# Altium integrated library Diodes - TVS.IntLib: 5379 symbols (part 34 of 122)
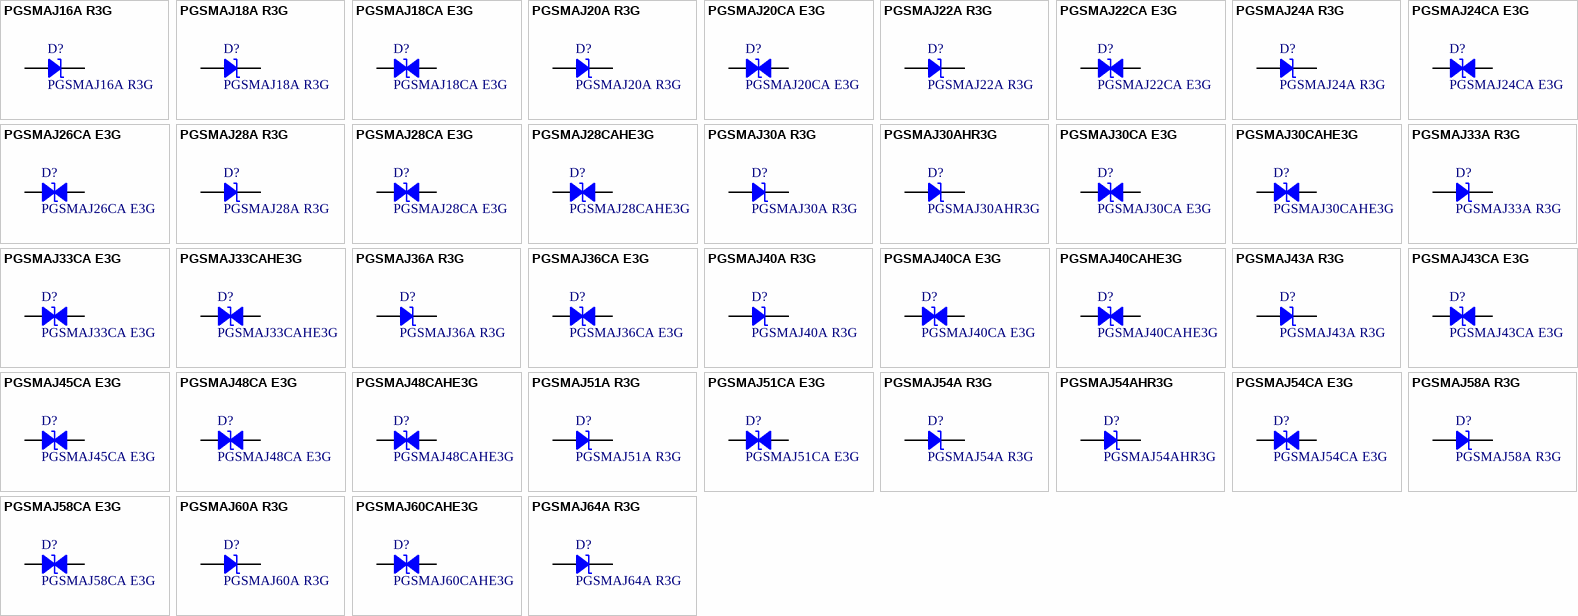
[diagram p167: symbols PGSMAJ16A R3G to PGSMAJ64A R3G]

## PGSMAJ40CA E3G
designator D?
DIODE, TVS, BIDIRECTIONAL; Manufacturer: Taiwan Semiconductor Corporation; Bidirectional Channels: 1; Current - Peak Pulse (10/1000µs): 6.2A; Power Line Protection: No; Power - Peak Pulse: 400W; Type: Zener; Voltage - Breakdown (Min): 44.4V; Voltage - Clamping (Max) @ Ipp: 64.5V; Voltage - Reverse Standoff (Typ): 40V; Part Number: PGSMAJ40CA E3G; Applications: Automotive; ComponentLink1Description: Datasheet; ComponentLink1URL: https://www.taiwansemi.com/products/datasheet/PGSMAJ%20SERIES_B1805.pdf; ComponentLink2Description: DigiKey Link; ComponentLink2URL: http://digikey.com/product-detail/en/taiwan-semiconductor-corporation/PGSMAJ40CA-E3G/PGSMAJ40CAE3GCT-ND/8600546; LastUpdated: 9/2/2020 1:27:54 AM; Lifecycle Status: Active; Minimum Order: 1; Mounting Type: Surface Mount; Operating Temperature: -55°C ~ 175°C (TJ); Package / Case: DO-214AC, SMA; Packaging: TapeAndReel; PartId: 7659; Part Status: Active; Price: 0.13; Series: Automotive, AEC-Q101; Supplier 1: DigiKey; Supplier Part Number 1: PGSMAJ40CAE3GCT-ND; Supplier Device Package: DO-214AC (SMA)
footprint DO214AC SMA
pins: 1, 2

## PGSMAJ40CAHE3G
designator D?
DIODE, TVS, BIDIRECTIONAL; Manufacturer: Taiwan Semiconductor Corporation; Bidirectional Channels: 1; Current - Peak Pulse (10/1000µs): 6.2A; Power Line Protection: No; Power - Peak Pulse: 400W; Type: Zener; Voltage - Breakdown (Min): 44.4V; Voltage - Clamping (Max) @ Ipp: 64.5V; Voltage - Reverse Standoff (Typ): 40V; Part Number: PGSMAJ40CAHE3G; Applications: Automotive; ComponentLink1Description: Datasheet; ComponentLink1URL: https://www.taiwansemi.com/products/datasheet/PGSMAJ%20SERIES_B1805.pdf; ComponentLink2Description: DigiKey Link; ComponentLink2URL: http://digikey.com/product-detail/en/taiwan-semiconductor-corporation/PGSMAJ40CAHE3G/PGSMAJ40CAHE3GCT-ND/8600547; LastUpdated: 9/2/2020 1:27:51 AM; Lifecycle Status: Active; Minimum Order: 1; Mounting Type: Surface Mount; Operating Temperature: -55°C ~ 175°C (TJ); Package / Case: DO-214AC, SMA; Packaging: TapeAndReel; PartId: 7365; Part Status: Active; Price: 0.14; Series: Automotive, AEC-Q101; Supplier 1: DigiKey; Supplier Part Number 1: PGSMAJ40CAHE3GCT-ND; Supplier Device Package: DO-214AC (SMA)
footprint DO214AC SMA
pins: 1, 2

## PGSMAJ43A R3G
designator D?
DIODE, TVS, UNIDIRECTIONAL; Manufacturer: Taiwan Semiconductor Corporation; Current - Peak Pulse (10/1000µs): 5.8A; Power Line Protection: No; Power - Peak Pulse: 400W; Type: Zener; Unidirectional Channels: 1; Voltage - Breakdown (Min): 47.8V; Voltage - Clamping (Max) @ Ipp: 69.4V; Voltage - Reverse Standoff (Typ): 43V; Part Number: PGSMAJ43A R3G; Applications: Automotive; ComponentLink1Description: Datasheet; ComponentLink1URL: https://www.taiwansemi.com/products/datasheet/PGSMAJ%20SERIES_B1805.pdf; ComponentLink2Description: DigiKey Link; ComponentLink2URL: http://digikey.com/product-detail/en/taiwan-semiconductor-corporation/PGSMAJ43A-R3G/PGSMAJ43AR3GCT-ND/8600548; LastUpdated: 9/2/2020 1:20:16 AM; Lifecycle Status: Active; Minimum Order: 1; Mounting Type: Surface Mount; Operating Temperature: -55°C ~ 175°C (TJ); Package / Case: DO-214AC, SMA; Packaging: TapeAndReel; PartId: 5975; Part Status: Active; Price: 0.12; Series: Automotive, AEC-Q101; Supplier 1: DigiKey; Supplier Part Number 1: PGSMAJ43AR3GCT-ND; Supplier Device Package: DO-214AC (SMA)
footprint DO214AC SMA
pins: 1, 2

## PGSMAJ43CA E3G
designator D?
DIODE, TVS, BIDIRECTIONAL; Manufacturer: Taiwan Semiconductor Corporation; Bidirectional Channels: 1; Current - Peak Pulse (10/1000µs): 5.8A; Power Line Protection: No; Power - Peak Pulse: 400W; Type: Zener; Voltage - Breakdown (Min): 47.8V; Voltage - Clamping (Max) @ Ipp: 69.4V; Voltage - Reverse Standoff (Typ): 43V; Part Number: PGSMAJ43CA E3G; Applications: Automotive; ComponentLink1Description: Datasheet; ComponentLink1URL: https://www.taiwansemi.com/products/datasheet/PGSMAJ%20SERIES_B1805.pdf; ComponentLink2Description: DigiKey Link; ComponentLink2URL: http://digikey.com/product-detail/en/taiwan-semiconductor-corporation/PGSMAJ43CA-E3G/PGSMAJ43CAE3GCT-ND/8600549; LastUpdated: 9/2/2020 1:27:54 AM; Lifecycle Status: Active; Minimum Order: 1; Mounting Type: Surface Mount; Operating Temperature: -55°C ~ 175°C (TJ); Package / Case: DO-214AC, SMA; Packaging: TapeAndReel; PartId: 7658; Part Status: Active; Price: 0.13; Series: Automotive, AEC-Q101; Supplier 1: DigiKey; Supplier Part Number 1: PGSMAJ43CAE3GCT-ND; Supplier Device Package: DO-214AC (SMA)
footprint DO214AC SMA
pins: 1, 2

## PGSMAJ45CA E3G
designator D?
DIODE, TVS, BIDIRECTIONAL; Manufacturer: Taiwan Semiconductor Corporation; Bidirectional Channels: 1; Current - Peak Pulse (10/1000µs): 5.5A; Power Line Protection: No; Power - Peak Pulse: 400W; Type: Zener; Voltage - Breakdown (Min): 50V; Voltage - Clamping (Max) @ Ipp: 72.7V; Voltage - Reverse Standoff (Typ): 45V; Part Number: PGSMAJ45CA E3G; Applications: Automotive; ComponentLink1Description: Datasheet; ComponentLink1URL: https://www.taiwansemi.com/products/datasheet/PGSMAJ%20SERIES_B1805.pdf; ComponentLink2Description: DigiKey Link; ComponentLink2URL: http://digikey.com/product-detail/en/taiwan-semiconductor-corporation/PGSMAJ45CA-E3G/PGSMAJ45CAE3GCT-ND/8600550; LastUpdated: 9/2/2020 1:27:54 AM; Lifecycle Status: Active; Minimum Order: 1; Mounting Type: Surface Mount; Operating Temperature: -55°C ~ 175°C (TJ); Package / Case: DO-214AC, SMA; Packaging: TapeAndReel; PartId: 7657; Part Status: Active; Price: 0.13; Series: Automotive, AEC-Q101; Supplier 1: DigiKey; Supplier Part Number 1: PGSMAJ45CAE3GCT-ND; Supplier Device Package: DO-214AC (SMA)
footprint DO214AC SMA
pins: 1, 2

## PGSMAJ48CA E3G
designator D?
DIODE, TVS, BIDIRECTIONAL; Manufacturer: Taiwan Semiconductor Corporation; Bidirectional Channels: 1; Current - Peak Pulse (10/1000µs): 5.2A; Power Line Protection: No; Power - Peak Pulse: 400W; Type: Zener; Voltage - Breakdown (Min): 53.3V; Voltage - Clamping (Max) @ Ipp: 77.4V; Voltage - Reverse Standoff (Typ): 48V; Part Number: PGSMAJ48CA E3G; Applications: Automotive; ComponentLink1Description: Datasheet; ComponentLink1URL: https://www.taiwansemi.com/products/datasheet/PGSMAJ%20SERIES_B1805.pdf; ComponentLink2Description: DigiKey Link; ComponentLink2URL: http://digikey.com/product-detail/en/taiwan-semiconductor-corporation/PGSMAJ48CA-E3G/PGSMAJ48CAE3GCT-ND/8600551; LastUpdated: 9/2/2020 1:27:54 AM; Lifecycle Status: Active; Minimum Order: 1; Mounting Type: Surface Mount; Operating Temperature: -55°C ~ 175°C (TJ); Package / Case: DO-214AC, SMA; Packaging: TapeAndReel; PartId: 7671; Part Status: Active; Price: 0.13; Series: Automotive, AEC-Q101; Supplier 1: DigiKey; Supplier Part Number 1: PGSMAJ48CAE3GCT-ND; Supplier Device Package: DO-214AC (SMA)
footprint DO214AC SMA
pins: 1, 2

## PGSMAJ48CAHE3G
designator D?
DIODE, TVS, BIDIRECTIONAL; Manufacturer: Taiwan Semiconductor Corporation; Bidirectional Channels: 1; Current - Peak Pulse (10/1000µs): 5.2A; Power Line Protection: No; Power - Peak Pulse: 400W; Type: Zener; Voltage - Breakdown (Min): 53.3V; Voltage - Clamping (Max) @ Ipp: 77.4V; Voltage - Reverse Standoff (Typ): 48V; Part Number: PGSMAJ48CAHE3G; Applications: Automotive; ComponentLink1Description: Datasheet; ComponentLink1URL: https://www.taiwansemi.com/products/datasheet/PGSMAJ%20SERIES_B1805.pdf; ComponentLink2Description: DigiKey Link; ComponentLink2URL: http://digikey.com/product-detail/en/taiwan-semiconductor-corporation/PGSMAJ48CAHE3G/PGSMAJ48CAHE3GCT-ND/8600552; LastUpdated: 9/2/2020 1:27:51 AM; Lifecycle Status: Active; Minimum Order: 1; Mounting Type: Surface Mount; Operating Temperature: -55°C ~ 175°C (TJ); Package / Case: DO-214AC, SMA; Packaging: TapeAndReel; PartId: 7364; Part Status: Active; Price: 0.14; Series: Automotive, AEC-Q101; Supplier 1: DigiKey; Supplier Part Number 1: PGSMAJ48CAHE3GCT-ND; Supplier Device Package: DO-214AC (SMA)
footprint DO214AC SMA
pins: 1, 2

## PGSMAJ51A R3G
designator D?
DIODE, TVS, UNIDIRECTIONAL; Manufacturer: Taiwan Semiconductor Corporation; Current - Peak Pulse (10/1000µs): 4.9A; Power Line Protection: No; Power - Peak Pulse: 400W; Type: Zener; Unidirectional Channels: 1; Voltage - Breakdown (Min): 56.7V; Voltage - Clamping (Max) @ Ipp: 82.4V; Voltage - Reverse Standoff (Typ): 51V; Part Number: PGSMAJ51A R3G; Applications: Automotive; ComponentLink1Description: Datasheet; ComponentLink1URL: https://www.taiwansemi.com/products/datasheet/PGSMAJ%20SERIES_B1805.pdf; ComponentLink2Description: DigiKey Link; ComponentLink2URL: http://digikey.com/product-detail/en/taiwan-semiconductor-corporation/PGSMAJ51A-R3G/PGSMAJ51AR3GCT-ND/8600557; LastUpdated: 9/2/2020 1:20:16 AM; Lifecycle Status: Active; Minimum Order: 1; Mounting Type: Surface Mount; Operating Temperature: -55°C ~ 175°C (TJ); Package / Case: DO-214AC, SMA; Packaging: TapeAndReel; PartId: 5974; Part Status: Active; Price: 0.12; Series: Automotive, AEC-Q101; Supplier 1: DigiKey; Supplier Part Number 1: PGSMAJ51AR3GCT-ND; Supplier Device Package: DO-214AC (SMA)
footprint DO214AC SMA
pins: 1, 2

## PGSMAJ51CA E3G
designator D?
DIODE, TVS, BIDIRECTIONAL; Manufacturer: Taiwan Semiconductor Corporation; Bidirectional Channels: 1; Current - Peak Pulse (10/1000µs): 4.9A; Power Line Protection: No; Power - Peak Pulse: 400W; Type: Zener; Voltage - Breakdown (Min): 56.7V; Voltage - Clamping (Max) @ Ipp: 82.4V; Voltage - Reverse Standoff (Typ): 51V; Part Number: PGSMAJ51CA E3G; Applications: Automotive; ComponentLink1Description: Datasheet; ComponentLink1URL: https://www.taiwansemi.com/products/datasheet/PGSMAJ%20SERIES_B1805.pdf; ComponentLink2Description: DigiKey Link; ComponentLink2URL: http://digikey.com/product-detail/en/taiwan-semiconductor-corporation/PGSMAJ51CA-E3G/PGSMAJ51CAE3GCT-ND/8600558; LastUpdated: 9/2/2020 1:27:54 AM; Lifecycle Status: Active; Minimum Order: 1; Mounting Type: Surface Mount; Operating Temperature: -55°C ~ 175°C (TJ); Package / Case: DO-214AC, SMA; Packaging: TapeAndReel; PartId: 7656; Part Status: Active; Price: 0.13; Series: Automotive, AEC-Q101; Supplier 1: DigiKey; Supplier Part Number 1: PGSMAJ51CAE3GCT-ND; Supplier Device Package: DO-214AC (SMA)
footprint DO214AC SMA
pins: 1, 2

## PGSMAJ54A R3G
designator D?
DIODE, TVS, UNIDIRECTIONAL; Manufacturer: Taiwan Semiconductor Corporation; Current - Peak Pulse (10/1000µs): 4.6A; Power Line Protection: No; Power - Peak Pulse: 400W; Type: Zener; Unidirectional Channels: 1; Voltage - Breakdown (Min): 60V; Voltage - Clamping (Max) @ Ipp: 87.1V; Voltage - Reverse Standoff (Typ): 54V; Part Number: PGSMAJ54A R3G; Applications: Automotive; ComponentLink1Description: Datasheet; ComponentLink1URL: https://www.taiwansemi.com/products/datasheet/PGSMAJ%20SERIES_B1805.pdf; ComponentLink2Description: DigiKey Link; ComponentLink2URL: http://digikey.com/product-detail/en/taiwan-semiconductor-corporation/PGSMAJ54A-R3G/PGSMAJ54AR3GCT-ND/8600559; LastUpdated: 9/2/2020 1:20:16 AM; Lifecycle Status: Active; Minimum Order: 1; Mounting Type: Surface Mount; Operating Temperature: -55°C ~ 175°C (TJ); Package / Case: DO-214AC, SMA; Packaging: TapeAndReel; PartId: 5973; Part Status: Active; Price: 0.12; Series: Automotive, AEC-Q101; Supplier 1: DigiKey; Supplier Part Number 1: PGSMAJ54AR3GCT-ND; Supplier Device Package: DO-214AC (SMA)
footprint DO214AC SMA
pins: 1, 2

## PGSMAJ54AHR3G
designator D?
DIODE, TVS, UNIDIRECTIONAL; Manufacturer: Taiwan Semiconductor Corporation; Current - Peak Pulse (10/1000µs): 4.6A; Power Line Protection: No; Power - Peak Pulse: 400W; Type: Zener; Unidirectional Channels: 1; Voltage - Breakdown (Min): 60V; Voltage - Clamping (Max) @ Ipp: 87.1V; Voltage - Reverse Standoff (Typ): 54V; Part Number: PGSMAJ54AHR3G; Applications: Automotive; ComponentLink1Description: Datasheet; ComponentLink1URL: https://www.taiwansemi.com/products/datasheet/PGSMAJ%20SERIES_B1805.pdf; ComponentLink2Description: DigiKey Link; ComponentLink2URL: http://digikey.com/product-detail/en/taiwan-semiconductor-corporation/PGSMAJ54AHR3G/PGSMAJ54AHR3GCT-ND/8600560; LastUpdated: 9/2/2020 1:20:17 AM; Lifecycle Status: Active; Minimum Order: 1; Mounting Type: Surface Mount; Operating Temperature: -55°C ~ 175°C (TJ); Package / Case: DO-214AC, SMA; Packaging: TapeAndReel; PartId: 6028; Part Status: Active; Price: 0.11; Series: Automotive, AEC-Q101; Supplier 1: DigiKey; Supplier Part Number 1: PGSMAJ54AHR3GCT-ND; Supplier Device Package: DO-214AC (SMA)
footprint DO214AC SMA
pins: 1, 2

## PGSMAJ54CA E3G
designator D?
DIODE, TVS, BIDIRECTIONAL; Manufacturer: Taiwan Semiconductor Corporation; Bidirectional Channels: 1; Current - Peak Pulse (10/1000µs): 4.6A; Power Line Protection: No; Power - Peak Pulse: 400W; Type: Zener; Voltage - Breakdown (Min): 60V; Voltage - Clamping (Max) @ Ipp: 87.1V; Voltage - Reverse Standoff (Typ): 54V; Part Number: PGSMAJ54CA E3G; Applications: Automotive; ComponentLink1Description: Datasheet; ComponentLink1URL: https://www.taiwansemi.com/products/datasheet/PGSMAJ%20SERIES_B1805.pdf; ComponentLink2Description: DigiKey Link; ComponentLink2URL: http://digikey.com/product-detail/en/taiwan-semiconductor-corporation/PGSMAJ54CA-E3G/PGSMAJ54CAE3GCT-ND/8600561; LastUpdated: 9/2/2020 1:27:52 AM; Lifecycle Status: Active; Minimum Order: 1; Mounting Type: Surface Mount; Operating Temperature: -55°C ~ 175°C (TJ); Package / Case: DO-214AC, SMA; Packaging: TapeAndReel; PartId: 7502; Part Status: Active; Price: 0.13; Series: Automotive, AEC-Q101; Supplier 1: DigiKey; Supplier Part Number 1: PGSMAJ54CAE3GCT-ND; Supplier Device Package: DO-214AC (SMA)
footprint DO214AC SMA
pins: 1, 2

## PGSMAJ58A R3G
designator D?
DIODE, TVS, UNIDIRECTIONAL; Manufacturer: Taiwan Semiconductor Corporation; Current - Peak Pulse (10/1000µs): 4.3A; Power Line Protection: No; Power - Peak Pulse: 400W; Type: Zener; Unidirectional Channels: 1; Voltage - Breakdown (Min): 64.4V; Voltage - Clamping (Max) @ Ipp: 93.6V; Voltage - Reverse Standoff (Typ): 58V; Part Number: PGSMAJ58A R3G; Applications: Automotive; ComponentLink1Description: Datasheet; ComponentLink1URL: https://www.taiwansemi.com/products/datasheet/PGSMAJ%20SERIES_B1805.pdf; ComponentLink2Description: DigiKey Link; ComponentLink2URL: http://digikey.com/product-detail/en/taiwan-semiconductor-corporation/PGSMAJ58A-R3G/PGSMAJ58AR3GCT-ND/8600562; LastUpdated: 9/2/2020 1:20:16 AM; Lifecycle Status: Active; Minimum Order: 1; Mounting Type: Surface Mount; Operating Temperature: -55°C ~ 175°C (TJ); Package / Case: DO-214AC, SMA; Packaging: TapeAndReel; PartId: 5972; Part Status: Active; Price: 0.12; Series: Automotive, AEC-Q101; Supplier 1: DigiKey; Supplier Part Number 1: PGSMAJ58AR3GCT-ND; Supplier Device Package: DO-214AC (SMA)
footprint DO214AC SMA
pins: 1, 2

## PGSMAJ58CA E3G
designator D?
DIODE, TVS, BIDIRECTIONAL; Manufacturer: Taiwan Semiconductor Corporation; Bidirectional Channels: 1; Current - Peak Pulse (10/1000µs): 4.3A; Power Line Protection: No; Power - Peak Pulse: 400W; Type: Zener; Voltage - Breakdown (Min): 64.4V; Voltage - Clamping (Max) @ Ipp: 93.6V; Voltage - Reverse Standoff (Typ): 58V; Part Number: PGSMAJ58CA E3G; Applications: Automotive; ComponentLink1Description: Datasheet; ComponentLink1URL: https://www.taiwansemi.com/products/datasheet/PGSMAJ%20SERIES_B1805.pdf; ComponentLink2Description: DigiKey Link; ComponentLink2URL: http://digikey.com/product-detail/en/taiwan-semiconductor-corporation/PGSMAJ58CA-E3G/PGSMAJ58CAE3GCT-ND/8600563; LastUpdated: 9/2/2020 1:27:54 AM; Lifecycle Status: Active; Minimum Order: 1; Mounting Type: Surface Mount; Operating Temperature: -55°C ~ 175°C (TJ); Package / Case: DO-214AC, SMA; Packaging: TapeAndReel; PartId: 7655; Part Status: Active; Price: 0.13; Series: Automotive, AEC-Q101; Supplier 1: DigiKey; Supplier Part Number 1: PGSMAJ58CAE3GCT-ND; Supplier Device Package: DO-214AC (SMA)
footprint DO214AC SMA
pins: 1, 2

## PGSMAJ60A R3G
designator D?
DIODE, TVS, UNIDIRECTIONAL; Manufacturer: Taiwan Semiconductor Corporation; Current - Peak Pulse (10/1000µs): 4.1A; Power Line Protection: No; Power - Peak Pulse: 400W; Type: Zener; Unidirectional Channels: 1; Voltage - Breakdown (Min): 66.7V; Voltage - Clamping (Max) @ Ipp: 96.8V; Voltage - Reverse Standoff (Typ): 60V; Part Number: PGSMAJ60A R3G; Applications: Automotive; ComponentLink1Description: Datasheet; ComponentLink1URL: https://www.taiwansemi.com/products/datasheet/PGSMAJ%20SERIES_B1805.pdf; ComponentLink2Description: DigiKey Link; ComponentLink2URL: http://digikey.com/product-detail/en/taiwan-semiconductor-corporation/PGSMAJ60A-R3G/PGSMAJ60AR3GCT-ND/8600565; LastUpdated: 9/2/2020 1:20:16 AM; Lifecycle Status: Active; Minimum Order: 1; Mounting Type: Surface Mount; Operating Temperature: -55°C ~ 175°C (TJ); Package / Case: DO-214AC, SMA; Packaging: TapeAndReel; PartId: 5971; Part Status: Active; Price: 0.12; Series: Automotive, AEC-Q101; Supplier 1: DigiKey; Supplier Part Number 1: PGSMAJ60AR3GCT-ND; Supplier Device Package: DO-214AC (SMA)
footprint DO214AC SMA
pins: 1, 2

## PGSMAJ60CAHE3G
designator D?
DIODE, TVS, BIDIRECTIONAL; Manufacturer: Taiwan Semiconductor Corporation; Bidirectional Channels: 1; Current - Peak Pulse (10/1000µs): 4.1A; Power Line Protection: No; Power - Peak Pulse: 400W; Type: Zener; Voltage - Breakdown (Min): 66.7V; Voltage - Clamping (Max) @ Ipp: 96.8V; Voltage - Reverse Standoff (Typ): 60V; Part Number: PGSMAJ60CAHE3G; Applications: Automotive; ComponentLink1Description: Datasheet; ComponentLink1URL: https://www.taiwansemi.com/products/datasheet/PGSMAJ%20SERIES_B1805.pdf; ComponentLink2Description: DigiKey Link; ComponentLink2URL: http://digikey.com/product-detail/en/taiwan-semiconductor-corporation/PGSMAJ60CAHE3G/PGSMAJ60CAHE3GCT-ND/8600566; LastUpdated: 9/2/2020 1:27:51 AM; Lifecycle Status: Active; Minimum Order: 1; Mounting Type: Surface Mount; Operating Temperature: -55°C ~ 175°C (TJ); Package / Case: DO-214AC, SMA; Packaging: TapeAndReel; PartId: 7363; Part Status: Active; Price: 0.14; Series: Automotive, AEC-Q101; Supplier 1: DigiKey; Supplier Part Number 1: PGSMAJ60CAHE3GCT-ND; Supplier Device Package: DO-214AC (SMA)
footprint DO214AC SMA
pins: 1, 2

## PGSMAJ64A R3G
designator D?
DIODE, TVS, UNIDIRECTIONAL; Manufacturer: Taiwan Semiconductor Corporation; Current - Peak Pulse (10/1000µs): 3.9A; Power Line Protection: No; Power - Peak Pulse: 400W; Type: Zener; Unidirectional Channels: 1; Voltage - Breakdown (Min): 71.1V; Voltage - Clamping (Max) @ Ipp: 103V; Voltage - Reverse Standoff (Typ): 64V; Part Number: PGSMAJ64A R3G; Applications: Automotive; ComponentLink1Description: Datasheet; ComponentLink1URL: https://www.taiwansemi.com/products/datasheet/PGSMAJ%20SERIES_B1805.pdf; ComponentLink2Description: DigiKey Link; ComponentLink2URL: http://digikey.com/product-detail/en/taiwan-semiconductor-corporation/PGSMAJ64A-R3G/PGSMAJ64AR3GCT-ND/8600567; LastUpdated: 9/2/2020 1:20:18 AM; Lifecycle Status: Active; Minimum Order: 1; Mounting Type: Surface Mount; Operating Temperature: -55°C ~ 175°C (TJ); Package / Case: DO-214AC, SMA; Packaging: TapeAndReel; PartId: 6131; Part Status: Active; Price: 0.12; Series: Automotive, AEC-Q101; Supplier 1: DigiKey; Supplier Part Number 1: PGSMAJ64AR3GCT-ND; Supplier Device Package: DO-214AC (SMA)
footprint DO214AC SMA
pins: 1, 2

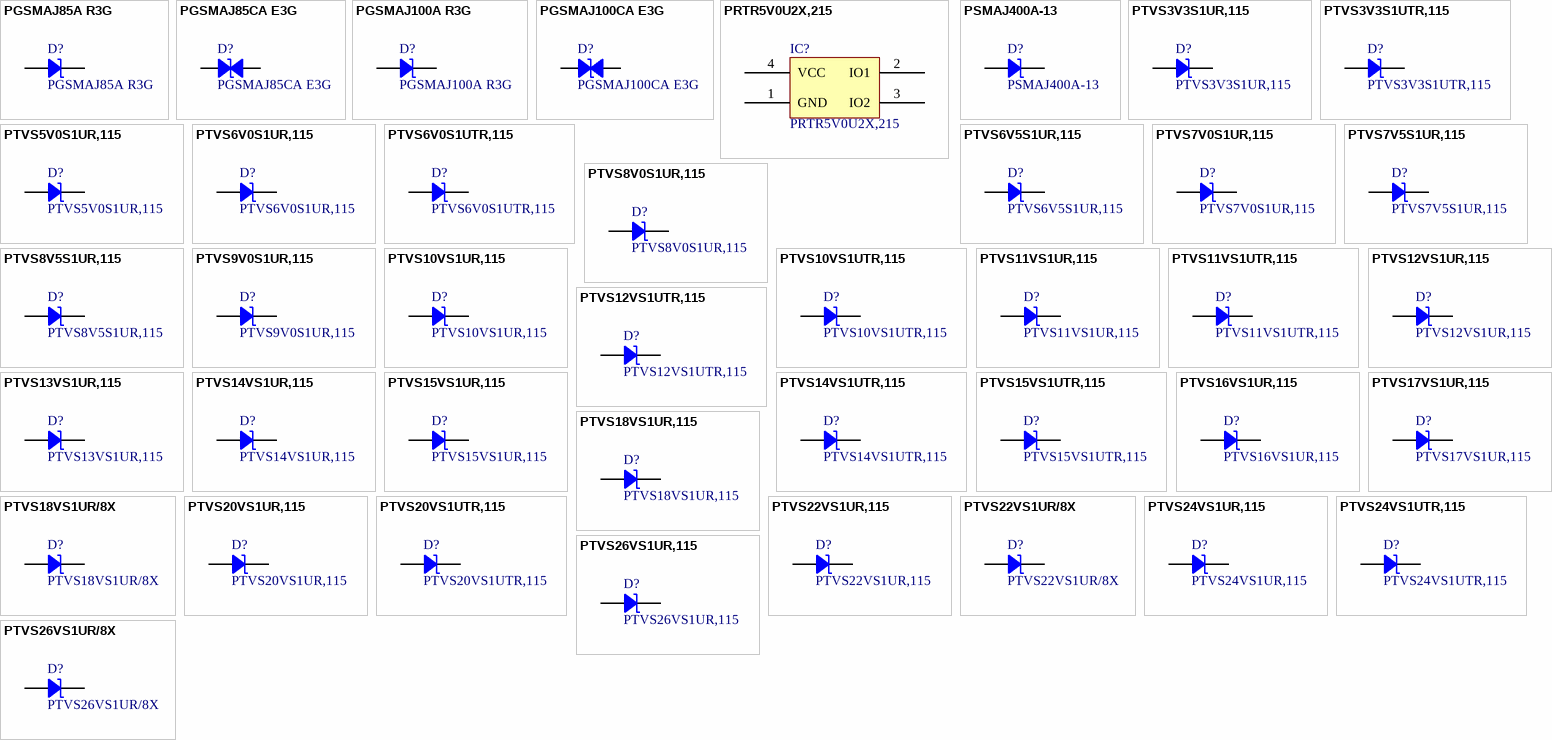
[diagram p37: symbols PGSMAJ85A R3G to PTVS26VS1UR/8X]

## PGSMAJ85A R3G
designator D?
DIODE, TVS, UNIDIRECTIONAL; Manufacturer: Taiwan Semiconductor Corporation; Current - Peak Pulse (10/1000µs): 2.2A; Power Line Protection: No; Power - Peak Pulse: 400W; Type: Zener; Unidirectional Channels: 1; Voltage - Breakdown (Min): 94.4V; Voltage - Clamping (Max) @ Ipp: 137V; Voltage - Reverse Standoff (Typ): 85V; Part Number: PGSMAJ85A R3G; Applications: Automotive; ComponentLink1Description: Datasheet; ComponentLink1URL: https://www.taiwansemi.com/products/datasheet/PGSMAJ%20SERIES_B1805.pdf; ComponentLink2Description: DigiKey Link; ComponentLink2URL: http://digikey.com/product-detail/en/taiwan-semiconductor-corporation/PGSMAJ85A-R3G/PGSMAJ85AR3GCT-ND/8600571; LastUpdated: 9/2/2020 1:20:18 AM; Lifecycle Status: Active; Minimum Order: 1; Mounting Type: Surface Mount; Operating Temperature: -55°C ~ 175°C (TJ); Package / Case: DO-214AC, SMA; Packaging: TapeAndReel; PartId: 6130; Part Status: Active; Price: 0.12; Series: Automotive, AEC-Q101; Supplier 1: DigiKey; Supplier Part Number 1: PGSMAJ85AR3GCT-ND; Supplier Device Package: DO-214AC (SMA)
footprint DO214AC SMA
pins: 1, 2

## PGSMAJ85CA E3G
designator D?
DIODE, TVS, BIDIRECTIONAL; Manufacturer: Taiwan Semiconductor Corporation; Bidirectional Channels: 1; Current - Peak Pulse (10/1000µs): 2.2A; Power Line Protection: No; Power - Peak Pulse: 400W; Type: Zener; Voltage - Breakdown (Min): 94.4V; Voltage - Clamping (Max) @ Ipp: 137V; Voltage - Reverse Standoff (Typ): 85V; Part Number: PGSMAJ85CA E3G; Applications: Automotive; ComponentLink1Description: Datasheet; ComponentLink1URL: https://www.taiwansemi.com/products/datasheet/PGSMAJ%20SERIES_B1805.pdf; ComponentLink2Description: DigiKey Link; ComponentLink2URL: http://digikey.com/product-detail/en/taiwan-semiconductor-corporation/PGSMAJ85CA-E3G/PGSMAJ85CAE3GCT-ND/8600572; LastUpdated: 9/2/2020 1:27:54 AM; Lifecycle Status: Active; Minimum Order: 1; Mounting Type: Surface Mount; Operating Temperature: -55°C ~ 175°C (TJ); Package / Case: DO-214AC, SMA; Packaging: TapeAndReel; PartId: 7654; Part Status: Active; Price: 0.13; Series: Automotive, AEC-Q101; Supplier 1: DigiKey; Supplier Part Number 1: PGSMAJ85CAE3GCT-ND; Supplier Device Package: DO-214AC (SMA)
footprint DO214AC SMA
pins: 1, 2

## PGSMAJ100A R3G
designator D?
DIODE TVS UNIDIRECTIONAL; Manufacturer: Taiwan Semiconductor Corporation; Current - Peak Pulse (10/1000µs): 1.9A; Power Line Protection: No; Power - Peak Pulse: 400W; Type: Zener; Unidirectional Channels: 1; Voltage - Breakdown (Min): 111V; Voltage - Clamping (Max) @ Ipp: 162V; Voltage - Reverse Standoff (Typ): 100V; Part Number: PGSMAJ100A R3G; Applications: Automotive; ComponentLink1Description: Datasheet; ComponentLink1URL: https://www.taiwansemi.com/products/datasheet/PGSMAJ%20SERIES_B1805.pdf; ComponentLink2Description: DigiKey Link; ComponentLink2URL: http://digikey.com/product-detail/en/taiwan-semiconductor-corporation/PGSMAJ100A-R3G/PGSMAJ100AR3GCT-ND/8600513; LastUpdated: 9/2/2020 1:20:16 AM; Lifecycle Status: Active; Minimum Order: 1; Mounting Type: Surface Mount; Operating Temperature: -55°C ~ 175°C (TJ); Package / Case: DO-214AC, SMA; Packaging: TapeAndReel; PartId: 5986; Part Status: Active; Price: 0.12; Series: Automotive, AEC-Q101; Supplier 1: DigiKey; Supplier Part Number 1: PGSMAJ100AR3GCT-ND; Supplier Device Package: DO-214AC (SMA)
footprint DO214AC SMA
pins: 1, 2

## PGSMAJ100CA E3G
designator D?
DIODE, TVS, BIDIRECTIONAL; Manufacturer: Taiwan Semiconductor Corporation; Bidirectional Channels: 1; Current - Peak Pulse (10/1000µs): 1.9A; Power Line Protection: No; Power - Peak Pulse: 400W; Type: Zener; Voltage - Breakdown (Min): 111V; Voltage - Clamping (Max) @ Ipp: 162V; Voltage - Reverse Standoff (Typ): 100V; Part Number: PGSMAJ100CA E3G; Applications: Automotive; ComponentLink1Description: Datasheet; ComponentLink1URL: https://www.taiwansemi.com/products/datasheet/PGSMAJ%20SERIES_B1805.pdf; ComponentLink2Description: DigiKey Link; ComponentLink2URL: http://digikey.com/product-detail/en/taiwan-semiconductor-corporation/PGSMAJ100CA-E3G/PGSMAJ100CAE3GCT-ND/8600514; LastUpdated: 9/2/2020 1:27:54 AM; Lifecycle Status: Active; Minimum Order: 1; Mounting Type: Surface Mount; Operating Temperature: -55°C ~ 175°C (TJ); Package / Case: DO-214AC, SMA; Packaging: TapeAndReel; PartId: 7670; Part Status: Active; Price: 0.13; Series: Automotive, AEC-Q101; Supplier 1: DigiKey; Supplier Part Number 1: PGSMAJ100CAE3GCT-ND; Supplier Device Package: DO-214AC (SMA)
footprint DO214AC SMA
pins: 1, 2

## PRTR5V0U2X,215
designator IC?
TVS DIODE 5.5V SOT143B; Manufacturer: Nexperia USA Inc.; Capacitance @ Frequency: 1pF @ 1MHz; Power Line Protection: Yes; Unidirectional Channels: 2; Voltage - Breakdown (Min): 6V; Voltage - Reverse Standoff (Typ): 5.5V (Max); Part Number: PRTR5V0U2X,215; Applications: General Purpose; ComponentLink1Description: Datasheet; ComponentLink1URL: https://assets.nexperia.com/documents/data-sheet/PRTR5V0U2X.pdf; ComponentLink2Description: DigiKey Link; ComponentLink2URL: //digikey.com/product-detail/en/nexperia-usa-inc/PRTR5V0U2X215/1727-3884-2-ND/1163690; Device Package: TO-253-4, TO-253AA; LastUpdated: 12/9/2019 9:29:05 PM; Lifecycle Status: 0; Minimum Order: 1; Mounting Type: Surface Mount; Operating Temperature: -40°C ~ 85°C (TA); Package / Case: TO-253-4, TO-253AA; Packaging: TapeAndReel; PartId: 5451; Part Status: Active; Price: 0.18; Series: -; Supplier 1: DigiKey; Supplier Part Number 1: 1727-3884-2-ND; Supplier Device Package: SOT-143B; Type: Steering (Rail to Rail)
footprint SOT143B
pins: 1 GND, 2 IO1, 3 IO2, 4 VCC

## PSMAJ400A-13
designator D?
TVS DIODE 342V 548V SMA; Manufacturer: Diodes Incorporated; Current - Peak Pulse (10/1000µs): 730mA; Power Line Protection: No; Power - Peak Pulse: 400W; Type: Zener; Unidirectional Channels: 1; Voltage - Breakdown (Min): 380V; Part Number: PSMAJ400A-13; Applications: General Purpose; ComponentLink1Description: Datasheet; ComponentLink1URL: https://www.diodes.com/assets/Datasheets/PSMAJ400(C)A.pdf; ComponentLink2Description: DigiKey Link; ComponentLink2URL: http://digikey.com/product-detail/en/diodes-incorporated/PSMAJ400A-13/PSMAJ400A-13CT-ND/3829377; LastUpdated: 9/2/2020 1:20:14 AM; Lifecycle Status: Active; Minimum Order: 1; Mounting Type: Surface Mount; Operating Temperature: -55°C ~ 150°C (TJ); Package / Case: DO-214AC, SMA; Packaging: TapeAndReel; PartId: 5696; Part Status: Active; Price: 0.16; Series: -; Supplier 1: DigiKey; Supplier Part Number 1: PSMAJ400A-13CT-ND; Supplier Device Package: SMA; Voltage - Clamping (Max) @ Ipp: 548V; Voltage - Reverse Standoff (Typ): 342V
footprint DO214AC SMA
pins: 1, 2

## PTVS3V3S1UR,115
designator D?
TVS DIODE 3.3V 8V CFP3; Manufacturer: Nexperia USA Inc.; Current - Peak Pulse (10/1000µs): 43.8A; Power Line Protection: No; Power - Peak Pulse: 400W; Type: Zener; Unidirectional Channels: 1; Voltage - Breakdown (Min): 5.2V; Part Number: PTVS3V3S1UR,115; Applications: Automotive; ComponentLink1Description: Datasheet; ComponentLink1URL: https://assets.nexperia.com/documents/data-sheet/PTVSXS1UR_SER.pdf; ComponentLink2Description: DigiKey Link; ComponentLink2URL: http://digikey.com/product-detail/en/nexperia-usa-inc/PTVS3V3S1UR115/1727-5228-1-ND/2531832; LastUpdated: 9/2/2020 1:28:41 AM; Lifecycle Status: Active; Minimum Order: 1; Mounting Type: Surface Mount; Operating Temperature: -55°C ~ 150°C (TA); Package / Case: SOD-123W; Packaging: TapeAndReel; PartId: 10354; Part Status: Active; Price: 0.10; Series: Automotive, AEC-Q101; Supplier 1: DigiKey; Supplier Part Number 1: 1727-5228-1-ND; Supplier Device Package: CFP3; Voltage - Clamping (Max) @ Ipp: 8V; Voltage - Reverse Standoff (Typ): 3.3V
footprint SOD-123W
pins: 1, 2

## PTVS3V3S1UTR,115
designator D?
TVS DIODE 3.3V 8V CFP3; Manufacturer: Nexperia USA Inc.; Current - Peak Pulse (10/1000µs): 43.8A; Power Line Protection: No; Power - Peak Pulse: 400W; Type: Zener; Unidirectional Channels: 1; Voltage - Breakdown (Min): 5.2V; Part Number: PTVS3V3S1UTR,115; Applications: Automotive; ComponentLink1Description: Datasheet; ComponentLink1URL: https://assets.nexperia.com/documents/data-sheet/PTVSXS1UTR_SER.pdf; ComponentLink2Description: DigiKey Link; ComponentLink2URL: http://digikey.com/product-detail/en/nexperia-usa-inc/PTVS3V3S1UTR115/1727-1416-1-ND/4386462; LastUpdated: 9/2/2020 1:28:40 AM; Lifecycle Status: Active; Minimum Order: 1; Mounting Type: Surface Mount; Operating Temperature: -55°C ~ 185°C (TA); Package / Case: SOD-123W; Packaging: TapeAndReel; PartId: 10349; Part Status: Active; Price: 0.10; Series: Automotive, AEC-Q101; Supplier 1: DigiKey; Supplier Part Number 1: 1727-1416-1-ND; Supplier Device Package: CFP3; Voltage - Clamping (Max) @ Ipp: 8V; Voltage - Reverse Standoff (Typ): 3.3V
footprint SOD-123W
pins: 1, 2

## PTVS5V0S1UR,115
designator D?
TVS DIODE 5V 9.2V CFP3; Manufacturer: Nexperia USA Inc.; Current - Peak Pulse (10/1000µs): 43.5A; Power Line Protection: No; Power - Peak Pulse: 400W; Type: Zener; Unidirectional Channels: 1; Voltage - Breakdown (Min): 6.4V; Part Number: PTVS5V0S1UR,115; Applications: Automotive; ComponentLink1Description: Datasheet; ComponentLink1URL: https://assets.nexperia.com/documents/data-sheet/PTVSXS1UR_SER.pdf; ComponentLink2Description: DigiKey Link; ComponentLink2URL: http://digikey.com/product-detail/en/nexperia-usa-inc/PTVS5V0S1UR115/1727-5229-1-ND/2531833; LastUpdated: 9/2/2020 1:28:41 AM; Lifecycle Status: Active; Minimum Order: 1; Mounting Type: Surface Mount; Operating Temperature: -55°C ~ 150°C (TA); Package / Case: SOD-123W; Packaging: TapeAndReel; PartId: 10355; Part Status: Active; Price: 0.10; Series: Automotive, AEC-Q101; Supplier 1: DigiKey; Supplier Part Number 1: 1727-5229-1-ND; Supplier Device Package: CFP3; Voltage - Clamping (Max) @ Ipp: 9.2V; Voltage - Reverse Standoff (Typ): 5V
footprint SOD-123W
pins: 1, 2

## PTVS6V0S1UR,115
designator D?
TVS DIODE 6V 10.3V CFP3; Manufacturer: Nexperia USA Inc.; Current - Peak Pulse (10/1000µs): 38.8A; Power Line Protection: No; Power - Peak Pulse: 400W; Type: Zener; Unidirectional Channels: 1; Voltage - Breakdown (Min): 6.67V; Part Number: PTVS6V0S1UR,115; Applications: Automotive; ComponentLink1Description: Datasheet; ComponentLink1URL: https://assets.nexperia.com/documents/data-sheet/PTVSXS1UR_SER.pdf; ComponentLink2Description: DigiKey Link; ComponentLink2URL: http://digikey.com/product-detail/en/nexperia-usa-inc/PTVS6V0S1UR115/1727-5333-1-ND/2676811; LastUpdated: 9/2/2020 1:28:40 AM; Lifecycle Status: Active; Minimum Order: 1; Mounting Type: Surface Mount; Operating Temperature: -55°C ~ 150°C (TA); Package / Case: SOD-123W; Packaging: TapeAndReel; PartId: 10324; Part Status: Active; Price: 0.10; Series: Automotive, AEC-Q101; Supplier 1: DigiKey; Supplier Part Number 1: 1727-5333-1-ND; Supplier Device Package: CFP3; Voltage - Clamping (Max) @ Ipp: 10.3V; Voltage - Reverse Standoff (Typ): 6V
footprint SOD-123W
pins: 1, 2

## PTVS6V0S1UTR,115
designator D?
TVS DIODE 6V 10.3V CFP3; Manufacturer: Nexperia USA Inc.; Current - Peak Pulse (10/1000µs): 38.8A; Power Line Protection: No; Power - Peak Pulse: 400W; Type: Zener; Unidirectional Channels: 1; Voltage - Breakdown (Min): 6.67V; Part Number: PTVS6V0S1UTR,115; Applications: Automotive; ComponentLink1Description: Datasheet; ComponentLink1URL: https://assets.nexperia.com/documents/data-sheet/PTVSXS1UTR_SER.pdf; ComponentLink2Description: DigiKey Link; ComponentLink2URL: http://digikey.com/product-detail/en/nexperia-usa-inc/PTVS6V0S1UTR115/1727-1438-1-ND/4386484; LastUpdated: 9/2/2020 1:28:40 AM; Lifecycle Status: Active; Minimum Order: 1; Mounting Type: Surface Mount; Operating Temperature: -55°C ~ 185°C (TA); Package / Case: SOD-123W; Packaging: TapeAndReel; PartId: 10291; Part Status: Active; Price: 0.10; Series: Automotive, AEC-Q101; Supplier 1: DigiKey; Supplier Part Number 1: 1727-1438-1-ND; Supplier Device Package: CFP3; Voltage - Clamping (Max) @ Ipp: 10.3V; Voltage - Reverse Standoff (Typ): 6V
footprint SOD-123W
pins: 1, 2

## PTVS6V5S1UR,115
designator D?
TVS DIODE 6.5V 11.2V CFP3; Manufacturer: Nexperia USA Inc.; Current - Peak Pulse (10/1000µs): 35.7A; Power Line Protection: No; Power - Peak Pulse: 400W; Type: Zener; Unidirectional Channels: 1; Voltage - Breakdown (Min): 7.22V; Part Number: PTVS6V5S1UR,115; Applications: Automotive; ComponentLink1Description: Datasheet; ComponentLink1URL: https://assets.nexperia.com/documents/data-sheet/PTVSXS1UR_SER.pdf; ComponentLink2Description: DigiKey Link; ComponentLink2URL: http://digikey.com/product-detail/en/nexperia-usa-inc/PTVS6V5S1UR115/1727-5881-1-ND/2697467; LastUpdated: 9/2/2020 1:28:40 AM; Lifecycle Status: Active; Minimum Order: 1; Mounting Type: Surface Mount; Operating Temperature: -55°C ~ 150°C (TA); Package / Case: SOD-123W; Packaging: TapeAndReel; PartId: 10267; Part Status: Active; Price: 0.10; Series: Automotive, AEC-Q101; Supplier 1: DigiKey; Supplier Part Number 1: 1727-5881-1-ND; Supplier Device Package: CFP3; Voltage - Clamping (Max) @ Ipp: 11.2V; Voltage - Reverse Standoff (Typ): 6.5V
footprint SOD-123W
pins: 1, 2

## PTVS7V0S1UR,115
designator D?
TVS DIODE 7V 12V CFP3; Manufacturer: Nexperia USA Inc.; Current - Peak Pulse (10/1000µs): 33.3A; Power Line Protection: No; Power - Peak Pulse: 400W; Type: Zener; Unidirectional Channels: 1; Voltage - Breakdown (Min): 7.78V; Part Number: PTVS7V0S1UR,115; Applications: Automotive; ComponentLink1Description: Datasheet; ComponentLink1URL: https://assets.nexperia.com/documents/data-sheet/PTVSXS1UR_SER.pdf; ComponentLink2Description: DigiKey Link; ComponentLink2URL: http://digikey.com/product-detail/en/nexperia-usa-inc/PTVS7V0S1UR115/1727-5327-1-ND/2676804; LastUpdated: 9/2/2020 1:28:40 AM; Lifecycle Status: Active; Minimum Order: 1; Mounting Type: Surface Mount; Operating Temperature: -55°C ~ 150°C (TA); Package / Case: SOD-123W; Packaging: TapeAndReel; PartId: 10318; Part Status: Active; Price: 0.10; Series: Automotive, AEC-Q101; Supplier 1: DigiKey; Supplier Part Number 1: 1727-5327-1-ND; Supplier Device Package: CFP3; Voltage - Clamping (Max) @ Ipp: 12V; Voltage - Reverse Standoff (Typ): 7V
footprint SOD-123W
pins: 1, 2

## PTVS7V5S1UR,115
designator D?
TVS DIODE 7.5V 12.9V CFP3; Manufacturer: Nexperia USA Inc.; Current - Peak Pulse (10/1000µs): 31A; Power Line Protection: No; Power - Peak Pulse: 400W; Type: Zener; Unidirectional Channels: 1; Voltage - Breakdown (Min): 8.33V; Part Number: PTVS7V5S1UR,115; Applications: Automotive; ComponentLink1Description: Datasheet; ComponentLink1URL: https://assets.nexperia.com/documents/data-sheet/PTVSXS1UR_SER.pdf; ComponentLink2Description: DigiKey Link; ComponentLink2URL: http://digikey.com/product-detail/en/nexperia-usa-inc/PTVS7V5S1UR115/1727-5882-1-ND/2697428; LastUpdated: 9/2/2020 1:28:40 AM; Lifecycle Status: Active; Minimum Order: 1; Mounting Type: Surface Mount; Operating Temperature: -55°C ~ 150°C (TA); Package / Case: SOD-123W; Packaging: TapeAndReel; PartId: 10268; Part Status: Active; Price: 0.10; Series: Automotive, AEC-Q101; Supplier 1: DigiKey; Supplier Part Number 1: 1727-5882-1-ND; Supplier Device Package: CFP3; Voltage - Clamping (Max) @ Ipp: 12.9V; Voltage - Reverse Standoff (Typ): 7.5V
footprint SOD-123W
pins: 1, 2

## PTVS8V0S1UR,115
designator D?
TVS DIODE 8V 13.6V CFP3; Manufacturer: Nexperia USA Inc.; Current - Peak Pulse (10/1000µs): 29.4A; Power Line Protection: No; Power - Peak Pulse: 400W; Type: Zener; Unidirectional Channels: 1; Voltage - Breakdown (Min): 8.89V; Part Number: PTVS8V0S1UR,115; Applications: Automotive; ComponentLink1Description: Datasheet; ComponentLink1URL: https://assets.nexperia.com/documents/data-sheet/PTVSXS1UR_SER.pdf; ComponentLink2Description: DigiKey Link; ComponentLink2URL: http://digikey.com/product-detail/en/nexperia-usa-inc/PTVS8V0S1UR115/1727-5883-1-ND/2697447; LastUpdated: 9/2/2020 1:28:40 AM; Lifecycle Status: Active; Minimum Order: 1; Mounting Type: Surface Mount; Operating Temperature: -55°C ~ 150°C (TA); Package / Case: SOD-123W; Packaging: TapeAndReel; PartId: 10269; Part Status: Active; Price: 0.10; Series: Automotive, AEC-Q101; Supplier 1: DigiKey; Supplier Part Number 1: 1727-5883-1-ND; Supplier Device Package: CFP3; Voltage - Clamping (Max) @ Ipp: 13.6V; Voltage - Reverse Standoff (Typ): 8V
footprint SOD-123W
pins: 1, 2

## PTVS8V5S1UR,115
designator D?
TVS DIODE 8.5V 14.4V CFP3; Manufacturer: Nexperia USA Inc.; Current - Peak Pulse (10/1000µs): 27.8A; Power Line Protection: No; Power - Peak Pulse: 400W; Type: Zener; Unidirectional Channels: 1; Voltage - Breakdown (Min): 9.44V; Part Number: PTVS8V5S1UR,115; Applications: Automotive; ComponentLink1Description: Datasheet; ComponentLink1URL: https://assets.nexperia.com/documents/data-sheet/PTVSXS1UR_SER.pdf; ComponentLink2Description: DigiKey Link; ComponentLink2URL: http://digikey.com/product-detail/en/nexperia-usa-inc/PTVS8V5S1UR115/1727-5884-1-ND/2697448; LastUpdated: 9/2/2020 1:28:40 AM; Lifecycle Status: Active; Minimum Order: 1; Mounting Type: Surface Mount; Operating Temperature: -55°C ~ 150°C (TA); Package / Case: SOD-123W; Packaging: TapeAndReel; PartId: 10271; Part Status: Active; Price: 0.10; Series: Automotive, AEC-Q101; Supplier 1: DigiKey; Supplier Part Number 1: 1727-5884-1-ND; Supplier Device Package: CFP3; Voltage - Clamping (Max) @ Ipp: 14.4V; Voltage - Reverse Standoff (Typ): 8.5V
footprint SOD-123W
pins: 1, 2

## PTVS9V0S1UR,115
designator D?
TVS DIODE 9V 15.4V CFP3; Manufacturer: Nexperia USA Inc.; Current - Peak Pulse (10/1000µs): 26A; Power Line Protection: No; Power - Peak Pulse: 400W; Type: Zener; Unidirectional Channels: 1; Voltage - Breakdown (Min): 10V; Part Number: PTVS9V0S1UR,115; Applications: Automotive; ComponentLink1Description: Datasheet; ComponentLink1URL: https://assets.nexperia.com/documents/data-sheet/PTVSXS1UR_SER.pdf; ComponentLink2Description: DigiKey Link; ComponentLink2URL: http://digikey.com/product-detail/en/nexperia-usa-inc/PTVS9V0S1UR115/1727-5326-1-ND/2676803; LastUpdated: 9/2/2020 1:28:40 AM; Lifecycle Status: Active; Minimum Order: 1; Mounting Type: Surface Mount; Operating Temperature: -55°C ~ 150°C (TA); Package / Case: SOD-123W; Packaging: TapeAndReel; PartId: 10265; Part Status: Active; Price: 0.10; Series: Automotive, AEC-Q101; Supplier 1: DigiKey; Supplier Part Number 1: 1727-5326-1-ND; Supplier Device Package: CFP3; Voltage - Clamping (Max) @ Ipp: 15.4V; Voltage - Reverse Standoff (Typ): 9V
footprint SOD-123W
pins: 1, 2

## PTVS10VS1UR,115
designator D?
TVS DIODE 10V 17V CFP3; Manufacturer: Nexperia USA Inc.; Current - Peak Pulse (10/1000µs): 23.5A; Power Line Protection: No; Power - Peak Pulse: 400W; Type: Zener; Unidirectional Channels: 1; Voltage - Breakdown (Min): 11.1V; Part Number: PTVS10VS1UR,115; Applications: Automotive; ComponentLink1Description: Datasheet; ComponentLink1URL: https://assets.nexperia.com/documents/data-sheet/PTVSXS1UR_SER.pdf; ComponentLink2Description: DigiKey Link; ComponentLink2URL: http://digikey.com/product-detail/en/nexperia-usa-inc/PTVS10VS1UR115/1727-5361-1-ND/2676840; LastUpdated: 9/2/2020 1:28:40 AM; Lifecycle Status: Active; Minimum Order: 1; Mounting Type: Surface Mount; Operating Temperature: -55°C ~ 150°C (TA); Package / Case: SOD-123W; Packaging: TapeAndReel; PartId: 10273; Part Status: Active; Price: 0.09; Series: Automotive, AEC-Q101; Supplier 1: DigiKey; Supplier Part Number 1: 1727-5361-1-ND; Supplier Device Package: CFP3; Voltage - Clamping (Max) @ Ipp: 17V; Voltage - Reverse Standoff (Typ): 10V
footprint SOD-123W
pins: 1, 2

## PTVS10VS1UTR,115
designator D?
TVS DIODE 10V 17V CFP3; Manufacturer: Nexperia USA Inc.; Current - Peak Pulse (10/1000µs): 23.5A; Power Line Protection: No; Power - Peak Pulse: 400W; Type: Zener; Unidirectional Channels: 1; Voltage - Breakdown (Min): 11.1V; Part Number: PTVS10VS1UTR,115; Applications: Automotive; ComponentLink1Description: Datasheet; ComponentLink1URL: https://assets.nexperia.com/documents/data-sheet/PTVSXS1UTR_SER.pdf; ComponentLink2Description: DigiKey Link; ComponentLink2URL: http://digikey.com/product-detail/en/nexperia-usa-inc/PTVS10VS1UTR115/1727-1382-1-ND/4386428; LastUpdated: 9/2/2020 1:28:40 AM; Lifecycle Status: Active; Minimum Order: 1; Mounting Type: Surface Mount; Operating Temperature: -55°C ~ 185°C (TA); Package / Case: SOD-123W; Packaging: TapeAndReel; PartId: 10286; Part Status: Active; Price: 0.09; Series: Automotive, AEC-Q101; Supplier 1: DigiKey; Supplier Part Number 1: 1727-1382-1-ND; Supplier Device Package: CFP3; Voltage - Clamping (Max) @ Ipp: 17V; Voltage - Reverse Standoff (Typ): 10V
footprint SOD-123W
pins: 1, 2

## PTVS11VS1UR,115
designator D?
TVS DIODE 11V 18.2V CFP3; Manufacturer: Nexperia USA Inc.; Current - Peak Pulse (10/1000µs): 22A; Power Line Protection: No; Power - Peak Pulse: 400W; Type: Zener; Unidirectional Channels: 1; Voltage - Breakdown (Min): 12.2V; Part Number: PTVS11VS1UR,115; Applications: Automotive; ComponentLink1Description: Datasheet; ComponentLink1URL: https://assets.nexperia.com/documents/data-sheet/PTVSXS1UR_SER.pdf; ComponentLink2Description: DigiKey Link; ComponentLink2URL: http://digikey.com/product-detail/en/nexperia-usa-inc/PTVS11VS1UR115/1727-5346-1-ND/2676825; LastUpdated: 9/2/2020 1:28:40 AM; Lifecycle Status: Active; Minimum Order: 1; Mounting Type: Surface Mount; Operating Temperature: -55°C ~ 150°C (TA); Package / Case: SOD-123W; Packaging: TapeAndReel; PartId: 10264; Part Status: Active; Price: 0.09; Series: Automotive, AEC-Q101; Supplier 1: DigiKey; Supplier Part Number 1: 1727-5346-1-ND; Supplier Device Package: CFP3; Voltage - Clamping (Max) @ Ipp: 18.2V; Voltage - Reverse Standoff (Typ): 11V
footprint SOD-123W
pins: 1, 2

## PTVS11VS1UTR,115
designator D?
TVS DIODE 11V 18.2V CFP3; Manufacturer: Nexperia USA Inc.; Current - Peak Pulse (10/1000µs): 22A; Power Line Protection: No; Power - Peak Pulse: 400W; Type: Zener; Unidirectional Channels: 1; Voltage - Breakdown (Min): 12.2V; Part Number: PTVS11VS1UTR,115; Applications: Automotive; ComponentLink1Description: Datasheet; ComponentLink1URL: https://assets.nexperia.com/documents/data-sheet/PTVSXS1UTR_SER.pdf; ComponentLink2Description: DigiKey Link; ComponentLink2URL: http://digikey.com/product-detail/en/nexperia-usa-inc/PTVS11VS1UTR115/1727-1384-1-ND/4386430; LastUpdated: 9/2/2020 1:28:40 AM; Lifecycle Status: Active; Minimum Order: 1; Mounting Type: Surface Mount; Operating Temperature: -55°C ~ 185°C (TA); Package / Case: SOD-123W; Packaging: TapeAndReel; PartId: 10284; Part Status: Active; Price: 0.09; Series: Automotive, AEC-Q101; Supplier 1: DigiKey; Supplier Part Number 1: 1727-1384-1-ND; Supplier Device Package: CFP3; Voltage - Clamping (Max) @ Ipp: 18.2V; Voltage - Reverse Standoff (Typ): 11V
footprint SOD-123W
pins: 1, 2

## PTVS12VS1UR,115
designator D?
TVS DIODE 12V 19.9V CFP3; Manufacturer: Nexperia USA Inc.; Current - Peak Pulse (10/1000µs): 20.1A; Power Line Protection: No; Power - Peak Pulse: 400W; Type: Zener; Unidirectional Channels: 1; Voltage - Breakdown (Min): 13.3V; Part Number: PTVS12VS1UR,115; Applications: Automotive; ComponentLink1Description: Datasheet; ComponentLink1URL: https://assets.nexperia.com/documents/data-sheet/PTVSXS1UR_SER.pdf; ComponentLink2Description: DigiKey Link; ComponentLink2URL: http://digikey.com/product-detail/en/nexperia-usa-inc/PTVS12VS1UR115/1727-5325-1-ND/2676802; LastUpdated: 9/2/2020 1:28:40 AM; Lifecycle Status: Active; Minimum Order: 1; Mounting Type: Surface Mount; Operating Temperature: -55°C ~ 150°C (TA); Package / Case: SOD-123W; Packaging: TapeAndReel; PartId: 10325; Part Status: Active; Price: 0.09; Series: Automotive, AEC-Q101; Supplier 1: DigiKey; Supplier Part Number 1: 1727-5325-1-ND; Supplier Device Package: CFP3; Voltage - Clamping (Max) @ Ipp: 19.9V; Voltage - Reverse Standoff (Typ): 12V
footprint SOD-123W
pins: 1, 2

## PTVS12VS1UTR,115
designator D?
TVS DIODE 12V 19.9V CFP3; Manufacturer: Nexperia USA Inc.; Current - Peak Pulse (10/1000µs): 20.1A; Power Line Protection: No; Power - Peak Pulse: 400W; Type: Zener; Unidirectional Channels: 1; Voltage - Breakdown (Min): 13.3V; Part Number: PTVS12VS1UTR,115; Applications: Automotive; ComponentLink1Description: Datasheet; ComponentLink1URL: https://assets.nexperia.com/documents/data-sheet/PTVSXS1UTR_SER.pdf; ComponentLink2Description: DigiKey Link; ComponentLink2URL: http://digikey.com/product-detail/en/nexperia-usa-inc/PTVS12VS1UTR115/1727-1386-1-ND/4386432; LastUpdated: 9/2/2020 1:28:40 AM; Lifecycle Status: Active; Minimum Order: 1; Mounting Type: Surface Mount; Operating Temperature: -55°C ~ 185°C (TA); Package / Case: SOD-123W; Packaging: TapeAndReel; PartId: 10332; Part Status: Active; Price: 0.09; Series: Automotive, AEC-Q101; Supplier 1: DigiKey; Supplier Part Number 1: 1727-1386-1-ND; Supplier Device Package: CFP3; Voltage - Clamping (Max) @ Ipp: 19.9V; Voltage - Reverse Standoff (Typ): 12V
footprint SOD-123W
pins: 1, 2

## PTVS13VS1UR,115
designator D?
TVS DIODE 13V 21.5V CFP3; Manufacturer: Nexperia USA Inc.; Current - Peak Pulse (10/1000µs): 18.6A; Power Line Protection: No; Power - Peak Pulse: 400W; Type: Zener; Unidirectional Channels: 1; Voltage - Breakdown (Min): 14.4V; Part Number: PTVS13VS1UR,115; Applications: Automotive; ComponentLink1Description: Datasheet; ComponentLink1URL: https://assets.nexperia.com/documents/data-sheet/PTVSXS1UR_SER.pdf; ComponentLink2Description: DigiKey Link; ComponentLink2URL: http://digikey.com/product-detail/en/nexperia-usa-inc/PTVS13VS1UR115/1727-5347-1-ND/2676826; LastUpdated: 9/2/2020 1:28:40 AM; Lifecycle Status: Active; Minimum Order: 1; Mounting Type: Surface Mount; Operating Temperature: -55°C ~ 150°C (TA); Package / Case: SOD-123W; Packaging: TapeAndReel; PartId: 10328; Part Status: Active; Price: 0.09; Series: Automotive, AEC-Q101; Supplier 1: DigiKey; Supplier Part Number 1: 1727-5347-1-ND; Supplier Device Package: CFP3; Voltage - Clamping (Max) @ Ipp: 21.5V; Voltage - Reverse Standoff (Typ): 13V
footprint SOD-123W
pins: 1, 2

## PTVS14VS1UR,115
designator D?
TVS DIODE 14V 23.2V CFP3; Manufacturer: Nexperia USA Inc.; Current - Peak Pulse (10/1000µs): 17.2A; Power Line Protection: No; Power - Peak Pulse: 400W; Type: Zener; Unidirectional Channels: 1; Voltage - Breakdown (Min): 15.6V; Part Number: PTVS14VS1UR,115; Applications: Automotive; ComponentLink1Description: Datasheet; ComponentLink1URL: https://assets.nexperia.com/documents/data-sheet/PTVSXS1UR_SER.pdf; ComponentLink2Description: DigiKey Link; ComponentLink2URL: http://digikey.com/product-detail/en/nexperia-usa-inc/PTVS14VS1UR115/1727-5320-1-ND/2676796; LastUpdated: 9/2/2020 1:28:40 AM; Lifecycle Status: Active; Minimum Order: 1; Mounting Type: Surface Mount; Operating Temperature: -55°C ~ 150°C (TA); Package / Case: SOD-123W; Packaging: TapeAndReel; PartId: 10331; Part Status: Active; Price: 0.11; Series: Automotive, AEC-Q101; Supplier 1: DigiKey; Supplier Part Number 1: 1727-5320-1-ND; Supplier Device Package: CFP3; Voltage - Clamping (Max) @ Ipp: 23.2V; Voltage - Reverse Standoff (Typ): 14V
footprint SOD-123W
pins: 1, 2

## PTVS14VS1UTR,115
designator D?
TVS DIODE 14V 23.2V CFP3; Manufacturer: Nexperia USA Inc.; Current - Peak Pulse (10/1000µs): 17.2A; Power Line Protection: No; Power - Peak Pulse: 400W; Type: Zener; Unidirectional Channels: 1; Voltage - Breakdown (Min): 15.6V; Part Number: PTVS14VS1UTR,115; Applications: Automotive; ComponentLink1Description: Datasheet; ComponentLink1URL: https://assets.nexperia.com/documents/data-sheet/PTVSXS1UTR_SER.pdf; ComponentLink2Description: DigiKey Link; ComponentLink2URL: http://digikey.com/product-detail/en/nexperia-usa-inc/PTVS14VS1UTR115/1727-1390-1-ND/4386436; LastUpdated: 9/2/2020 1:28:40 AM; Lifecycle Status: Active; Minimum Order: 1; Mounting Type: Surface Mount; Operating Temperature: -55°C ~ 185°C (TA); Package / Case: SOD-123W; Packaging: TapeAndReel; PartId: 10276; Part Status: Active; Price: 0.09; Series: Automotive, AEC-Q101; Supplier 1: DigiKey; Supplier Part Number 1: 1727-1390-1-ND; Supplier Device Package: CFP3; Voltage - Clamping (Max) @ Ipp: 23.2V; Voltage - Reverse Standoff (Typ): 14V
footprint SOD-123W
pins: 1, 2

## PTVS15VS1UR,115
designator D?
TVS DIODE 15V 24.4V CFP3; Manufacturer: Nexperia USA Inc.; Current - Peak Pulse (10/1000µs): 16.4A; Power Line Protection: No; Power - Peak Pulse: 400W; Type: Zener; Unidirectional Channels: 1; Voltage - Breakdown (Min): 16.7V; Part Number: PTVS15VS1UR,115; Applications: Automotive; ComponentLink1Description: Datasheet; ComponentLink1URL: https://assets.nexperia.com/documents/data-sheet/PTVSXS1UR_SER.pdf; ComponentLink2Description: DigiKey Link; ComponentLink2URL: http://digikey.com/product-detail/en/nexperia-usa-inc/PTVS15VS1UR115/1727-5315-1-ND/2676791; LastUpdated: 9/2/2020 1:28:40 AM; Lifecycle Status: Active; Minimum Order: 1; Mounting Type: Surface Mount; Operating Temperature: -55°C ~ 150°C (TA); Package / Case: SOD-123W; Packaging: TapeAndReel; PartId: 10323; Part Status: Active; Price: 0.09; Series: Automotive, AEC-Q101; Supplier 1: DigiKey; Supplier Part Number 1: 1727-5315-1-ND; Supplier Device Package: CFP3; Voltage - Clamping (Max) @ Ipp: 24.4V; Voltage - Reverse Standoff (Typ): 15V
footprint SOD-123W
pins: 1, 2

## PTVS15VS1UTR,115
designator D?
TVS DIODE 15V 24.4V CFP3; Manufacturer: Nexperia USA Inc.; Current - Peak Pulse (10/1000µs): 16.4A; Power Line Protection: No; Power - Peak Pulse: 400W; Type: Zener; Unidirectional Channels: 1; Voltage - Breakdown (Min): 16.7V; Part Number: PTVS15VS1UTR,115; Applications: Automotive; ComponentLink1Description: Datasheet; ComponentLink1URL: https://assets.nexperia.com/documents/data-sheet/PTVSXS1UTR_SER.pdf; ComponentLink2Description: DigiKey Link; ComponentLink2URL: http://digikey.com/product-detail/en/nexperia-usa-inc/PTVS15VS1UTR115/1727-1392-1-ND/4386438; LastUpdated: 9/2/2020 1:28:40 AM; Lifecycle Status: Active; Minimum Order: 1; Mounting Type: Surface Mount; Operating Temperature: -55°C ~ 185°C (TA); Package / Case: SOD-123W; Packaging: TapeAndReel; PartId: 10290; Part Status: Active; Price: 0.09; Series: Automotive, AEC-Q101; Supplier 1: DigiKey; Supplier Part Number 1: 1727-1392-1-ND; Supplier Device Package: CFP3; Voltage - Clamping (Max) @ Ipp: 24.4V; Voltage - Reverse Standoff (Typ): 15V
footprint SOD-123W
pins: 1, 2